# Altium footprint library Comms.PcbLib: 3 footprints
Each footprint in its own frame and in the unit in brackets; x right, y up, seen from the top. Pads: shape width x height; smd on the part's side, far side on the other; paste and mask are expansions set on the pad; w line width, h text height; cw(c..) or ccw(c..) is an arc to the next point about the centre after c.
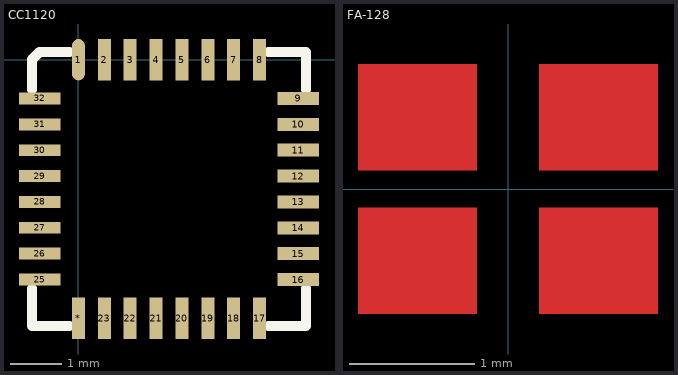
[diagram p0: the footprints below, top view; thin cyan lines are the x and y axes]

## CC1120 [mm]
pads (32):
  oval 0.25x0.8 smd: 1(0,0)
  rect 0.25x0.8 smd: 2(0.5,0) 3(1,0) 4(1.5,0) 5(2,0) 6(2.5,0) 7(3,0) 8(3.5,0) 17(3.5,-5) 18(3,-5) 19(2.5,-5) 20(2,-5) 21(1.5,-5) 22(1,-5) 23(0.5,-5) *(0,-5)
  rect 0.8x0.25 smd: 9(4.25,-0.75) 10(4.25,-1.25) 11(4.25,-1.75) 12(4.25,-2.25) 13(4.25,-2.75) 14(4.25,-3.25) 15(4.25,-3.75) 16(4.25,-4.25)
  rect 0.8x0.23 smd: 25(-0.75,-4.25) 26(-0.75,-3.75) 27(-0.75,-3.25) 28(-0.75,-2.75) 29(-0.75,-2.25) 30(-0.75,-1.75) 31(-0.75,-1.25) 32(-0.75,-0.75)
Top Overlay:
  lines w0.2: -0.9,-4.43 -0.9,-5.15 -0.18,-5.15 ; -0.9,-0.57 -0.9,0 -0.75,0.15 -0.18,0.15 ; 3.68,-5.15 4.4,-5.15 4.4,-4.43 ; 3.68,0.15 4.4,0.15 4.4,-0.57

## FA-128 [mm] "Crystal Oscillator, 32 MHz, 10 PPM, 10 PF"
Top Layer:
  rectangle: -1.2,-1 -0.25,-0.15
  rectangle: 0.25,-1 1.2,-0.15
  rectangle: -1.2,0.15 -0.25,1
  rectangle: 0.25,0.15 1.2,1

## PCBComponent_1 [mm]